# EAGLE library part LILYGO-T-CALL-A7670E_1.0 (library ovms_lilygo)
Liliygo T-Call A7670E V1.0 Modul
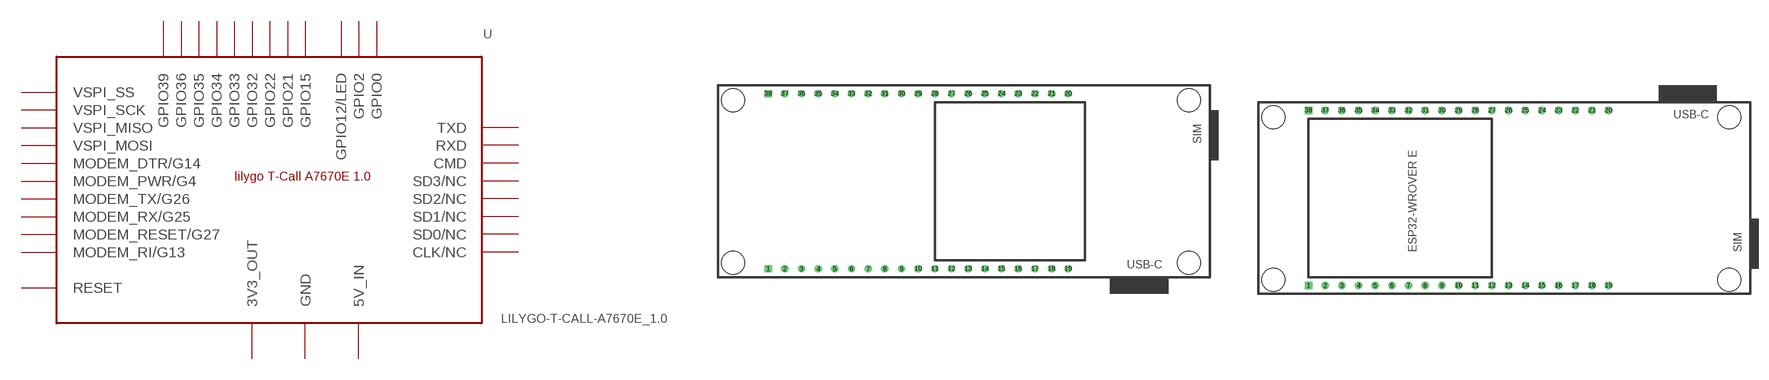
[diagram p0: symbol with the pads of LILYGO-TCALL-A7670E_1.0; footprints LILYGO-TCALL-A7670E_1.0, LILYGO-TCALL-A7670E_1.0-ESP-UP]

Designator prefix -

## LILYGO-T-CALL-A7670E_1.0SIMCOMTOP  [LILYGO-TCALL-A7670E_1.0]
1  GND
2  VSPI_MOSI
3  GPIO22  out
4  TXD  out
5  RXD  in
6  GPIO21
7  GND
8  VSPI_MISO
9  VSPI_SCK  out
10  VSPI_SS
13  MODEM_PWR/G4  out
14  GPIO0
15  GPIO2
16  GPIO15
17  SD1/NC  out
18  SD0/NC  out
19  CLK/NC  out
20  5V_IN  pwr
21  CMD
22  SD3/NC  out
23  SD2/NC
24  MODEM_RI/G13  out
25  GND
26  GPIO12/LED
27  MODEM_DTR/G14
28  MODEM_RESET/G27  out
29  MODEM_TX/G26  out
30  MODEM_RX/G25  out
31  GPIO33
32  GPIO32
33  GPIO35
34  GPIO34
35  GPIO39
36  GPIO36
37  RESET  in
38  3V3_OUT  out

## LILYGO-T-CALL-A7670E_1.0ESP32-TOP  [LILYGO-TCALL-A7670E_1.0-ESP-UP]
1  3V3_OUT  out
2  RESET  in
3  GPIO36
4  GPIO39
5  GPIO34
6  GPIO35
7  GPIO32
8  GPIO33
9  MODEM_RX/G25  out
10  MODEM_TX/G26  out
11  MODEM_RESET/G27  out
12  MODEM_DTR/G14
13  GPIO12/LED
14  GND
15  MODEM_RI/G13  out
16  SD2/NC
17  SD3/NC  out
18  CMD
19  5V_IN  pwr
20  CLK/NC  out
21  SD0/NC  out
22  SD1/NC  out
23  GPIO15
24  GPIO2
25  GPIO0
26  MODEM_PWR/G4  out
29  VSPI_SS
30  VSPI_SCK  out
31  VSPI_MISO
32  GND
33  GPIO21
34  RXD  in
35  TXD  out
36  GPIO22  out
37  VSPI_MOSI
38  GND

## Footprint LILYGO-TCALL-A7670E_1.0 (pad centres in mm)
drill 0.6 square: 1 -29.21,-13.97; 38 -29.21,12.7
drill 0.6: 2 -26.67,-13.97; 3 -24.13,-13.97; 4 -21.59,-13.97; 5 -19.05,-13.97; 6 -16.51,-13.97; 7 -13.97,-13.97; 8 -11.43,-13.97; 9 -8.89,-13.97; 10 -6.35,-13.97; 11 -3.81,-13.97; 12 -1.27,-13.97; 13 1.27,-13.97; 14 3.81,-13.97; 15 6.35,-13.97; 16 8.89,-13.97; 17 11.43,-13.97; 18 13.97,-13.97; 19 16.51,-13.97; 20 16.51,12.7; 21 13.97,12.7; 22 11.43,12.7; 23 8.89,12.7; 24 6.35,12.7; 25 3.81,12.7; 26 1.27,12.7; 27 -1.27,12.7; 28 -3.81,12.7; 29 -6.35,12.7; 30 -8.89,12.7; 31 -11.43,12.7; 32 -13.97,12.7; 33 -16.51,12.7; 34 -19.05,12.7; 35 -21.59,12.7; 36 -24.13,12.7; 37 -26.67,12.7
hole 3.5 at -34.544,11.684
hole 3.5 at -34.544,-13.081
hole 3.5 at 34.925,-13.081
hole 3.5 at 34.925,11.684

## Footprint LILYGO-TCALL-A7670E_1.0-ESP-UP (pad centres in mm)
drill 0.6 square: 1 -29.21,-13.97; 38 -29.21,12.7
drill 0.6: 2 -26.67,-13.97; 3 -24.13,-13.97; 4 -21.59,-13.97; 5 -19.05,-13.97; 6 -16.51,-13.97; 7 -13.97,-13.97; 8 -11.43,-13.97; 9 -8.89,-13.97; 10 -6.35,-13.97; 11 -3.81,-13.97; 12 -1.27,-13.97; 13 1.27,-13.97; 14 3.81,-13.97; 15 6.35,-13.97; 16 8.89,-13.97; 17 11.43,-13.97; 18 13.97,-13.97; 19 16.51,-13.97; 20 16.51,12.7; 21 13.97,12.7; 22 11.43,12.7; 23 8.89,12.7; 24 6.35,12.7; 25 3.81,12.7; 26 1.27,12.7; 27 -1.27,12.7; 28 -3.81,12.7; 29 -6.35,12.7; 30 -8.89,12.7; 31 -11.43,12.7; 32 -13.97,12.7; 33 -16.51,12.7; 34 -19.05,12.7; 35 -21.59,12.7; 36 -24.13,12.7; 37 -26.67,12.7
hole 3.5 at -34.544,11.684
hole 3.5 at -34.544,-13.081
hole 3.5 at 34.925,-13.081
hole 3.5 at 34.925,11.684